# Altium footprint library 43025-0408.PcbLib: 1 footprints
Each footprint in its own frame and in the unit in brackets; x right, y up, seen from the top. Pads: shape width x height; smd on the part's side, far side on the other; paste and mask are expansions set on the pad; w line width, h text height; cw(c..) or ccw(c..) is an arc to the next point about the centre after c.

## 43025-0408 [mm] "Molex Micro-Fit 3.0 2x2"
3D body "430250408.stp": height 10.7, standoff -0.13, extent -5.969,-5.25 8.031,3.02